# Altium schematic symbol library SCH - DRIVER - GATE - MICROCHIP MIC5015.SchLib: 1 symbol
Pins are listed as number, name and electrical type; pins without a type are passive.

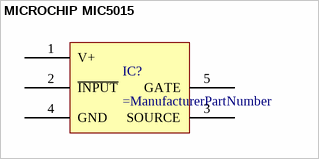
[diagram p0: symbol MICROCHIP MIC5015]

## MICROCHIP MIC5015
designator IC?
pins: 1 V+, 2 ~{INPUT}, 3 SOURCE, 4 GND, 5 GATE